# Altium footprint library VoltageReference.PcbLib: 4 footprints
Each footprint in its own frame and in the unit in brackets; x right, y up, seen from the top. Pads: shape width x height; smd on the part's side, far side on the other; paste and mask are expansions set on the pad; w line width, h text height; cw(c..) or ccw(c..) is an arc to the next point about the centre after c.
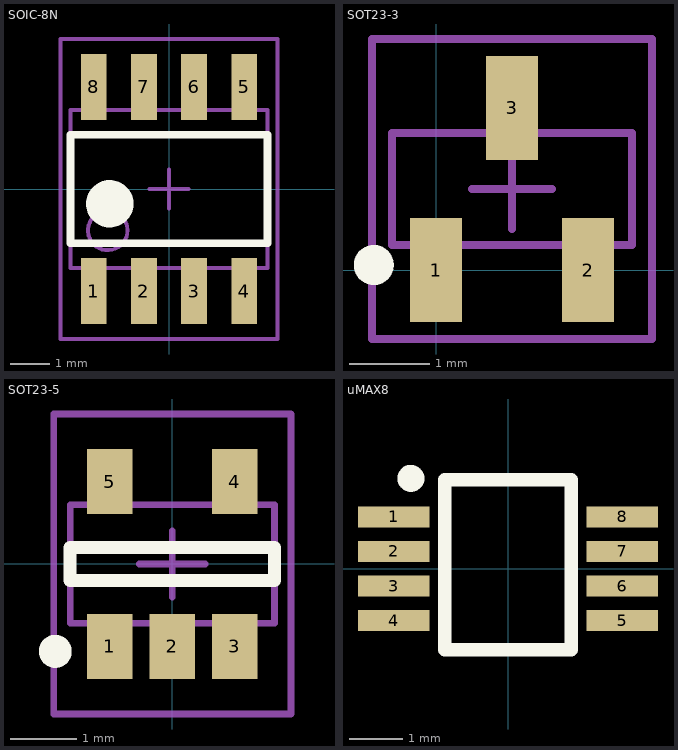
[diagram p0: the footprints below, top view; thin cyan lines are the x and y axes]

## SOIC-8N [mm]
height 1.75
pads (8):
  rect 0.65x1.675 smd paste-0.051 mask+0: 1(-1.905,-2.588) 2(-0.635,-2.588) 3(0.635,-2.588) 4(1.905,-2.588) 5(1.905,2.588) 6(0.635,2.588) 7(-0.635,2.588) 8(-1.905,2.588)
Top Overlay:
  circle w0.6: c-1.5,-0.375 r0.3
  lines w0.2: -2.5,-1.375 2.5,-1.375 2.5,1.375 -2.5,1.375 -2.5,-1.375
Mechanical 13:
  circle w0.1: c-1.55,-1.05 r0.5
  lines w0.1: -2.5,-2 2.5,-2 2.5,2 -2.5,2 -2.5,-2
Mechanical 15:
  lines w0.1: -0.5,0 0.5,0 ; 0,-0.5 0,0.5 ; -2.75,-3.8 2.75,-3.8 2.75,3.8 -2.75,3.8 -2.75,-3.8
3D body "User Library-SOIC-8.STEP": height 1.75, standoff 0, extent -2.5,-3.006 2.5,3.006

## SOT23-3 [mm] "SOT23, 3-Leads, Body 3,0x2,5mm (max), Pitch 0,83mm, IPC Medium Density"
height 1.1
pads (3):
  rect 0.65x1.3 smd paste-0.051 mask+0: 1(0,0) 2(1.9,0) 3(0.95,2.03)
Top Overlay:
  circle w0.25: c-0.78,0.065 r0.125
Mechanical 13:
  lines w0.1: -0.55,0.315 -0.55,1.715 2.45,1.715 2.45,0.315 -0.55,0.315
Mechanical 15:
  lines w0.1: 0.45,1.015 1.45,1.015 ; 0.95,0.515 0.95,1.515 ; -0.8,-0.86 -0.8,2.89 2.7,2.89 2.7,-0.86 -0.8,-0.86
3D body "User Library-sot23-1.STEP": height 1, standoff 0, extent -0.51,-0.155 2.41,2.185

## SOT23-5 [mm]
height 1.45
pads (5):
  rect 0.69x0.99 smd paste-0.051 mask+0: 1(-0.95,-1.25) 2(0,-1.25) 3(0.95,-1.25) 4(0.95,1.25) 5(-0.95,1.25)
Top Overlay:
  circle w0.25: c-1.775,-1.325 r0.125
  lines w0.2: -1.55,-0.25 -1.55,0.25 1.55,0.25 1.55,-0.25 -1.55,-0.25
Mechanical 13:
  lines w0.1: -1.55,-0.9 1.55,-0.9 1.55,0.9 -1.55,0.9 -1.55,-0.9
Mechanical 15:
  lines w0.1: -0.5,0 0.5,0 ; 0,-0.5 0,0.5 ; -1.8,-2.275 1.8,-2.275 1.8,2.275 -1.8,2.275 -1.8,-2.275
3D body "User Library-sot235.STEP": height 1, standoff 0, extent -1.46,-1.17 1.46,1.17

## uMAX8 [mm] "uMAX 8 LEAD"
height 1.1
pads (8):
  rect 1.35x0.4 smd: 1(-2.15,0.975) 2(-2.15,0.325) 3(-2.15,-0.325) 4(-2.15,-0.975) 5(2.15,-0.975) 6(2.15,-0.325) 7(2.15,0.325) 8(2.15,0.975)
Top Overlay:
  circle w0.254: c-1.829,1.702 r0.127
  lines w0.254: -1.194,-1.524 1.194,-1.524 1.194,1.674 -1.194,1.674 -1.194,-1.524
3D body "User Library-uMAX8.STEP": height 0.95, standoff 0, extent -2.5,-1.425 2.5,1.575